# Altium schematic symbol library Main_components.SchLib: 15 symbols
Pins are listed as number, name and electrical type; pins without a type are passive.

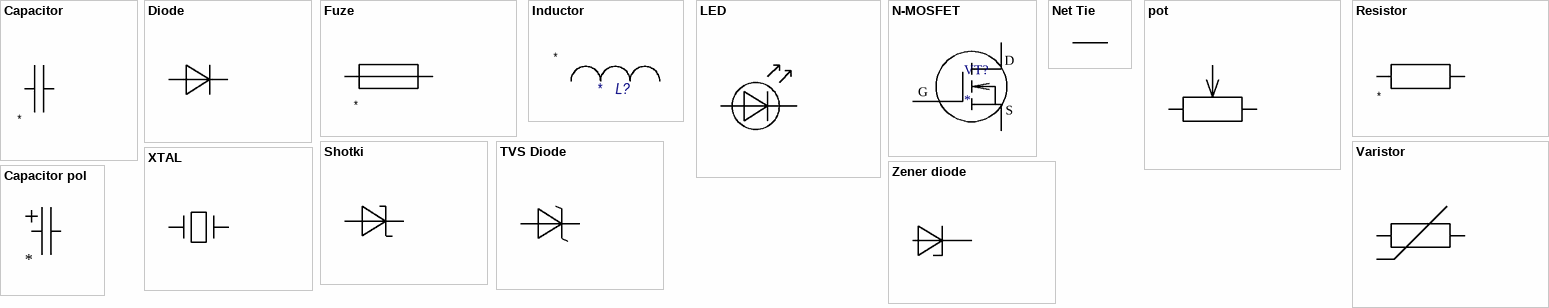
[diagram p0: symbols Capacitor to Сapacitor pol]

## Capacitor
designator C?
Name: -*-*; ComponentLink1Description: Product link; ComponentLink1URL: *; Voltage: *; Value: *
footprint CC0402
footprint CC0603
footprint CC0805
footprint CC1206
footprint CC1210
footprint CC1812
footprint CC2220
pins: 1, 2

## Diode
designator VD?
ComponentLink1Description: Product link; Name: *
footprint D0-124AC
footprint DO214AB
footprint DO-214AA
footprint SOD123
footprint SOD323
pins: A, C

## Fuze
designator F?
ComponentLink1Description: Product link; ComponentLink1URL: https://www.chipdip.ru/product/stps2h100a-2; Name: *; Value: *
footprint Fuze-1808
pins: 1, 2

## Inductor
designator L?
Name: *-*-*; Current: *; ComponentLink1Description: Product link; ComponentLink1URL: *; Value: *
footprint IND_LQH32PN6R8NN0L
footprint CDRH127/LDNP-820MC
pins: 1, 2
1 alternate drawing of the same symbol

## LED
designator HL?
ComponentLink1Description: Product link; Name: *
pins: A, C

## N-MOSFET
designator VT?
ComponentLink1Description: Product link; ComponentLink1URL: *
footprint TO247-1
footprint TO247-2
footprint DPAK; pin to pad D>2 G>1 S>3
footprint SOT-23-3; pin to pad D>3 G>1 S>2
pins: D, G, S

## Net Tie
designator ?  (net tie, no BOM)
ComponentLink1Description: Product link; ComponentLink1URL: https://www.chipdip.ru/product/stps2h100a-2
footprint Net Tie
pins: 1, 2

## pot
designator R?
ComponentLink1Description: Product link; Name: *
footprint 3296W
pins: 1, 2, 3

## Resistor
designator R?
Name: -*-*; ComponentLink1Description: Product link; ComponentLink1URL: *; Power: *; Value: *
footprint RC0402
footprint RC0603
footprint RC0805
footprint RC1206
footprint RC2512
footprint RC2816
pins: 1, 2

## Shotki
designator VD?
ComponentLink1Description: Product link; Name: *
footprint D0-124AC
footprint DO-214AA
footprint DO214AB
footprint SOD123
footprint SOD323
pins: A, C

## TVS Diode
designator VD?
ComponentLink1Description: Product link; GOST_Name_1: *
footprint D0-124AC
footprint DO-214AA
footprint DO214AB
footprint SOD123
footprint SOD323
pins: A, C

## Varistor
designator U?
ComponentLink1Description: Product link; Name: *
footprint Varistor-10mm
pins: 1, 2

## XTAL
designator XT?
Name: *; Freq: *
footprint HC-49SM
pins: 1, 2

## Zener diode
designator VD?
ComponentLink1Description: Product link; ComponentLink1URL: *; Name: *
footprint D0-124AC
footprint DO214AB
footprint DO-214AA
footprint SOD123
footprint SOD323
pins: A, C

## Сapacitor pol
designator C?
Name: *-*-*; ComponentLink1Description: Product link; ComponentLink1URL: *; Type: *; Voltage: *; value: *
footprint CAP-3.5-8
footprint CAP-5-10
footprint CAP-5-12.5
footprint CAP-10
footprint CAP-6.3-11.2
footprint CAP-2-5
footprint CAP-7.5-18
footprint AKSIAL-44
pins: 1, 2